# Altium footprint library SL_Capacitors_EMI.PcbLib: 1 footprints
Each footprint in its own frame and in the unit in brackets; x right, y up, seen from the top. Pads: shape width x height; smd on the part's side, far side on the other; paste and mask are expansions set on the pad; w line width, h text height; cw(c..) or ccw(c..) is an arc to the next point about the centre after c.
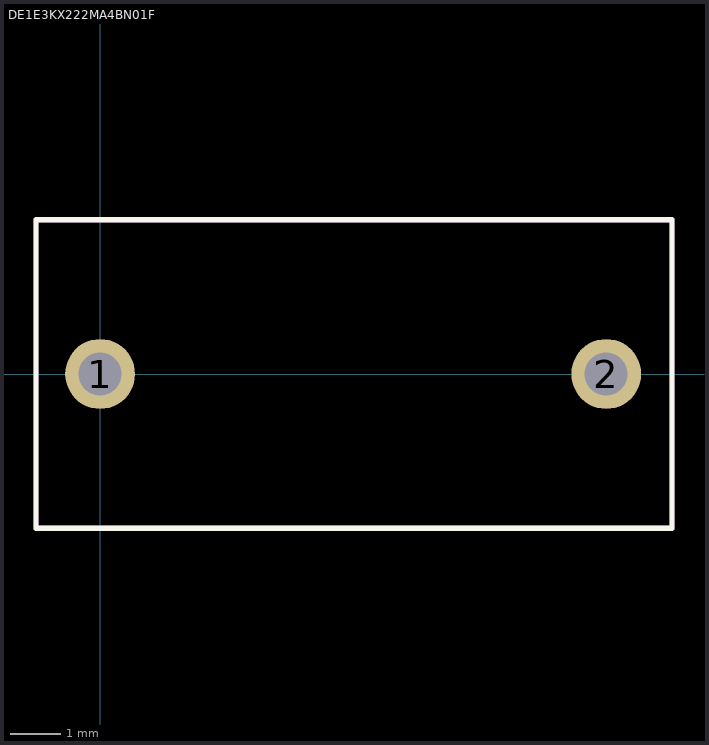
[diagram p0: the footprint, top view; thin cyan lines are the x and y axes]

## DE1E3KX222MA4BN01F [mm]
pads (2):
  round 1.381 hole 0.85: 1(0,0) 2(10,0)
Top Overlay:
  lines w0.1: -1.27,-3.048 11.303,-3.048 11.303,3.048 -1.27,3.048 -1.27,-3.048
Mechanical 13:
  lines w0.1: -1.27,-3.048 11.303,-3.048 11.303,3.048 -1.27,3.048 -1.27,-3.048
Mechanical 15:
  lines w0.1: -1.27,-3.048 11.303,-3.048 11.303,3.048 -1.27,3.048 -1.27,-3.048
3D body "DE1E3KX222MA4BN01F.stp": height 12.1, standoff -24.9, extent -0.327,-2.5 10.327,2.5